# Altium schematic symbol library SIM Modules.SchLib: 12 symbols
Pins are listed as number, name and electrical type; pins without a type are passive.

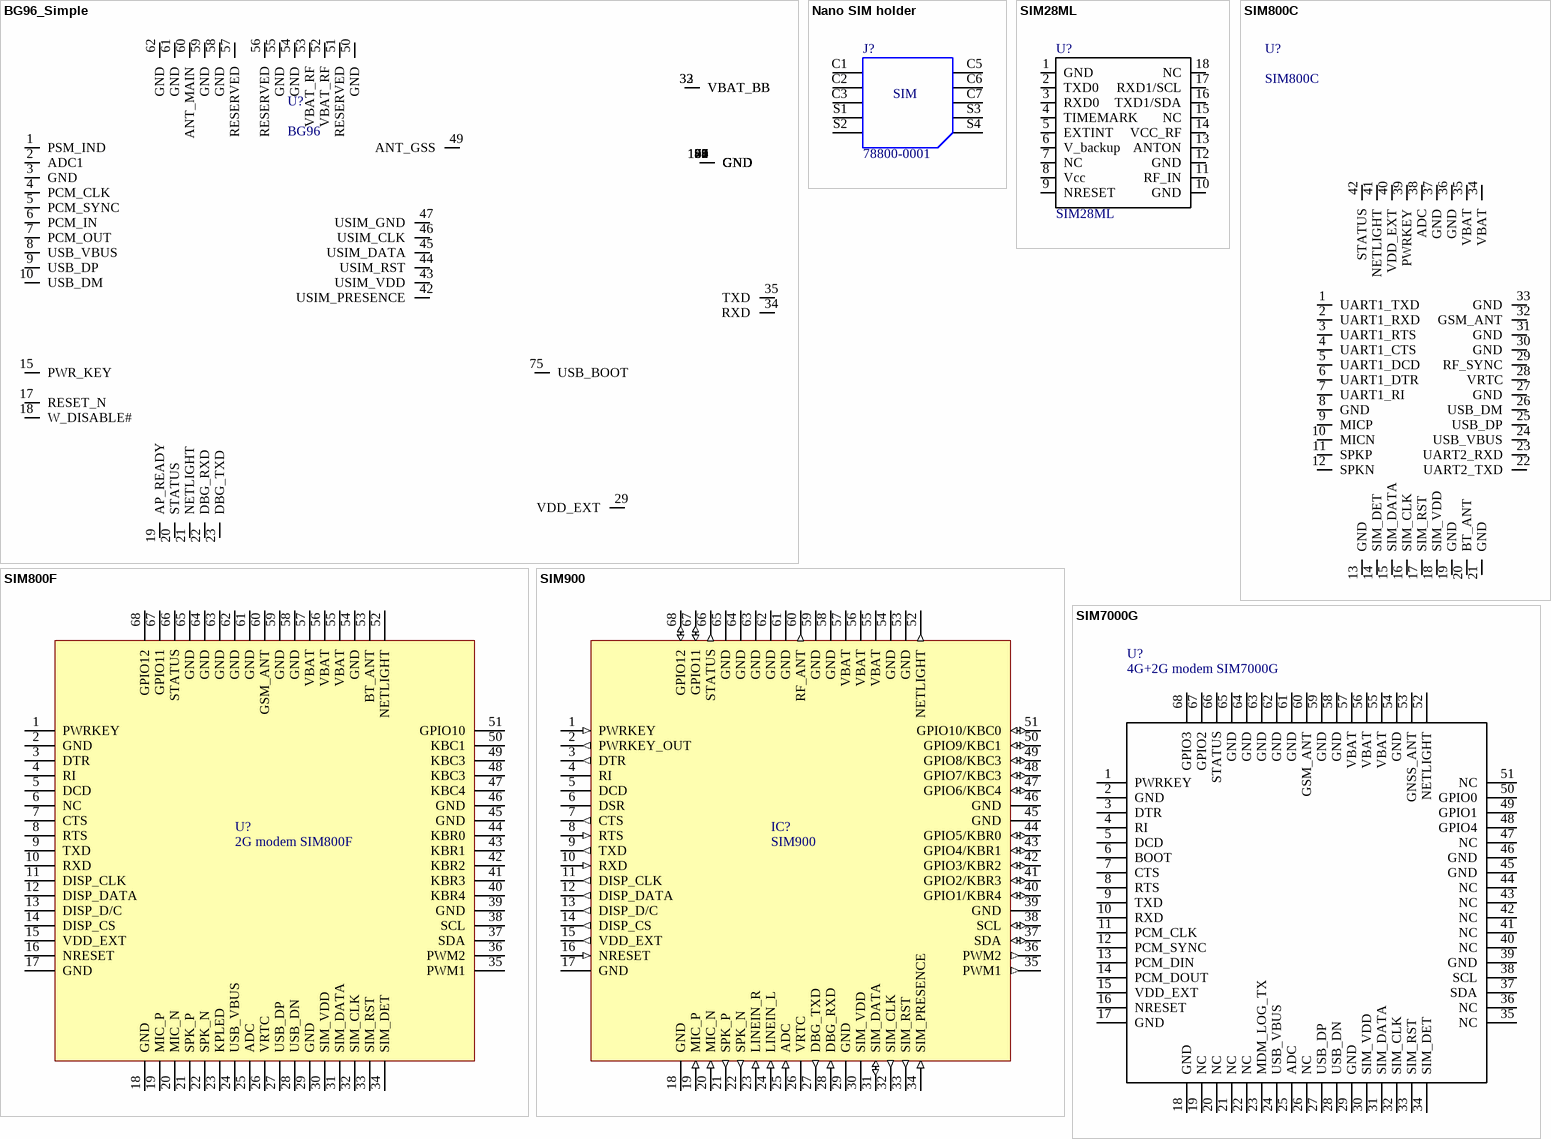
[diagram p0: symbols BG96_Simple to SIM7000G]

## BG96_Simple
designator U?, comment BG96
pins: 1 PSM_IND, 2 ADC1, 3 GND, 4 PCM_CLK, 5 PCM_SYNC, 6 PCM_IN, 7 PCM_OUT, 8 USB_VBUS, 9 USB_DP, 10 USB_DM, 15 PWR_KEY, 17 RESET_N, 18 W_DISABLE#, 19 AP_READY, 20 STATUS, 21 NETLIGHT, 22 DBG_RXD, 23 DBG_TXD, 29 VDD_EXT, 31 GND, 32 VBAT_BB, 33 VBAT_BB, 34 RXD, 35 TXD, 42 USIM_PRESENCE, 43 USIM_VDD, 44 USIM_RST, 45 USIM_DATA, 46 USIM_CLK, 47 USIM_GND, 48 GND, 49 ANT_GSS, 50 GND, 51 RESERVED, 52 VBAT_RF, 53 VBAT_RF, 54 GND, 55 GND, 56 RESERVED, 57 RESERVED, 58 GND, 59 GND, 60 ANT_MAIN, 61 GND, 62 GND, 67 GND, 68 GND, 69 GND, 70 GND, 71 GND, 72 GND, 73 GND, 74 GND, 75 USB_BOOT, 79 GND, 80 GND, 81 GND, 82 GND, 89 GND, 90 GND, 91 GND, 100 GND, 101 GND, 102 GND

## Nano SIM holder
designator J?, comment 78800-0001
footprint Nano SIM holder (78800-0001)
pins: C1, C2, C3, C5, C6, C7, S1, S2, S3, S4
text: SIM

## SIM28ML
designator U?, comment Part Number: SIM28ML  (hidden comment: GPS module)
Manufacturer: SIMCOM; Price 1: 7.37; Price 100: 4.51; Price 1000: 4.5
footprint SIM28ML
pins: 1 GND, 2 TXD0, 3 RXD0, 4 TIMEMARK, 5 EXTINT, 6 V_backup, 7 NC, 8 Vcc, 9 NRESET, 10 GND, 11 RF_IN, 12 GND, 13 ANTON, 14 VCC_RF, 15 NC, 16 TXD1/SDA, 17 RXD1/SCL, 18 NC

## SIM800C
designator U?
pins: 1 UART1_TXD, 2 UART1_RXD, 3 UART1_RTS, 4 UART1_CTS, 5 UART1_DCD, 6 UART1_DTR, 7 UART1_RI, 8 GND, 9 MICP, 10 MICN, 11 SPKP, 12 SPKN, 13 GND, 14 SIM_DET, 15 SIM_DATA, 16 SIM_CLK, 17 SIM_RST, 18 SIM_VDD, 19 GND, 20 BT_ANT, 21 GND, 22 UART2_TXD, 23 UART2_RXD, 24 USB_VBUS, 25 USB_DP, 26 USB_DM, 27 GND, 28 VRTC, 29 RF_SYNC, 30 GND, 31 GND, 32 GSM_ANT, 33 GND, 34 VBAT, 35 VBAT, 36 GND, 37 GND, 38 ADC, 39 PWRKEY, 40 VDD_EXT, 41 NETLIGHT, 42 STATUS

## SIM800F
designator U?, comment 2G modem SIM800F
footprint SIM800F
pins: 1 PWRKEY, 2 GND, 3 DTR, 4 RI, 5 DCD, 6 NC, 7 CTS, 8 RTS, 9 TXD, 10 RXD, 11 DISP_CLK, 12 DISP_DATA, 13 DISP_D/C, 14 DISP_CS, 15 VDD_EXT, 16 NRESET, 17 GND, 18 GND, 19 MIC_P, 20 MIC_N, 21 SPK_P, 22 SPK_N, 23 KPLED, 24 USB_VBUS, 25 ADC, 26 VRTC, 27 USB_DP, 28 USB_DN, 29 GND, 30 SIM_VDD, 31 SIM_DATA, 32 SIM_CLK, 33 SIM_RST, 34 SIM_DET, 35 PWM1, 36 PWM2, 37 SDA, 38 SCL, 39 GND, 40 KBR4, 41 KBR3, 42 KBR2, 43 KBR1, 44 KBR0, 45 GND, 46 GND, 47 KBC4, 48 KBC3, 49 KBC3, 50 KBC1, 51 GPIO10, 52 NETLIGHT, 53 BT_ANT, 54 GND, 55 VBAT, 56 VBAT, 57 VBAT, 58 GND, 59 GND, 60 GSM_ANT, 61 GND, 62 GND, 63 GND, 64 GND, 65 GND, 66 STATUS, 67 GPIO11, 68 GPIO12

## SIM900
designator IC?
footprint SIM900
pins: 1 PWRKEY (in), 2 PWRKEY_OUT (out), 3 DTR (out), 4 RI, 5 DCD, 6 DSR, 7 CTS (out), 8 RTS (in), 9 TXD (out), 10 RXD (in), 11 DISP_CLK (out), 12 DISP_DATA (out), 13 DISP_D/C (out), 14 DISP_CS (out), 15 VDD_EXT (out), 16 NRESET (in), 17 GND (power), 18 GND (power), 19 MIC_P (in), 20 MIC_N (in), 21 SPK_P (out), 22 SPK_N (out), 23 LINEIN_R (in), 24 LINEIN_L (in), 25 ADC (in), 26 VRTC, 27 DBG_TXD (out), 28 DBG_RXD (in), 29 GND (power), 30 SIM_VDD (power), 31 SIM_DATA (io), 32 SIM_CLK (out), 33 SIM_RST (out), 34 SIM_PRESENCE (in), 35 PWM1 (out), 36 PWM2 (out), 37 SDA (io), 38 SCL (io), 39 GND (power), 40 GPIO1/KBR4 (io), 41 GPIO2/KBR3 (io), 42 GPIO3/KBR2 (io), 43 GPIO4/KBR1 (io), 44 GPIO5/KBR0 (io), 45 GND (power), 46 GND (power), 47 GPIO6/KBC4 (io), 48 GPIO7/KBC3 (io), 49 GPIO8/KBC3 (io), 50 GPIO9/KBC1 (io), 51 GPIO10/KBC0 (io), 52 NETLIGHT (out), 53 GND (power), 54 GND (power), 55 VBAT (power), 56 VBAT (power), 57 VBAT (power), 58 GND (power), 59 GND (power), 60 RF_ANT (out), 61 GND (power), 62 GND (power), 63 GND (power), 64 GND (power), 65 GND (power), 66 STATUS (out), 67 GPIO11 (io), 68 GPIO12 (io)

## SIM7000G
designator U?, comment 4G+2G modem SIM7000G
Manufacturer: SIMCOM; Part Number: SIM7000G; Price 1: *; Price 100: *; Price 1000: *
footprint SIM800F
pins: 1 PWRKEY, 2 GND, 3 DTR, 4 RI, 5 DCD, 6 BOOT, 7 CTS, 8 RTS, 9 TXD, 10 RXD, 11 PCM_CLK, 12 PCM_SYNC, 13 PCM_DIN, 14 PCM_DOUT, 15 VDD_EXT, 16 NRESET, 17 GND, 18 GND, 19 NC, 20 NC, 21 NC, 22 NC, 23 MDM_LOG_TX, 24 USB_VBUS, 25 ADC, 26 NC, 27 USB_DP, 28 USB_DN, 29 GND, 30 SIM_VDD, 31 SIM_DATA, 32 SIM_CLK, 33 SIM_RST, 34 SIM_DET, 35 NC, 36 NC, 37 SDA, 38 SCL, 39 GND, 40 NC, 41 NC, 42 NC, 43 NC, 44 NC, 45 GND, 46 GND, 47 NC, 48 GPIO4, 49 GPIO1, 50 GPIO0, 51 NC, 52 NETLIGHT, 53 GNSS_ANT, 54 GND, 55 VBAT, 56 VBAT, 57 VBAT, 58 GND, 59 GND, 60 GSM_ANT, 61 GND, 62 GND, 63 GND, 64 GND, 65 GND, 66 STATUS, 67 GPIO2, 68 GPIO3

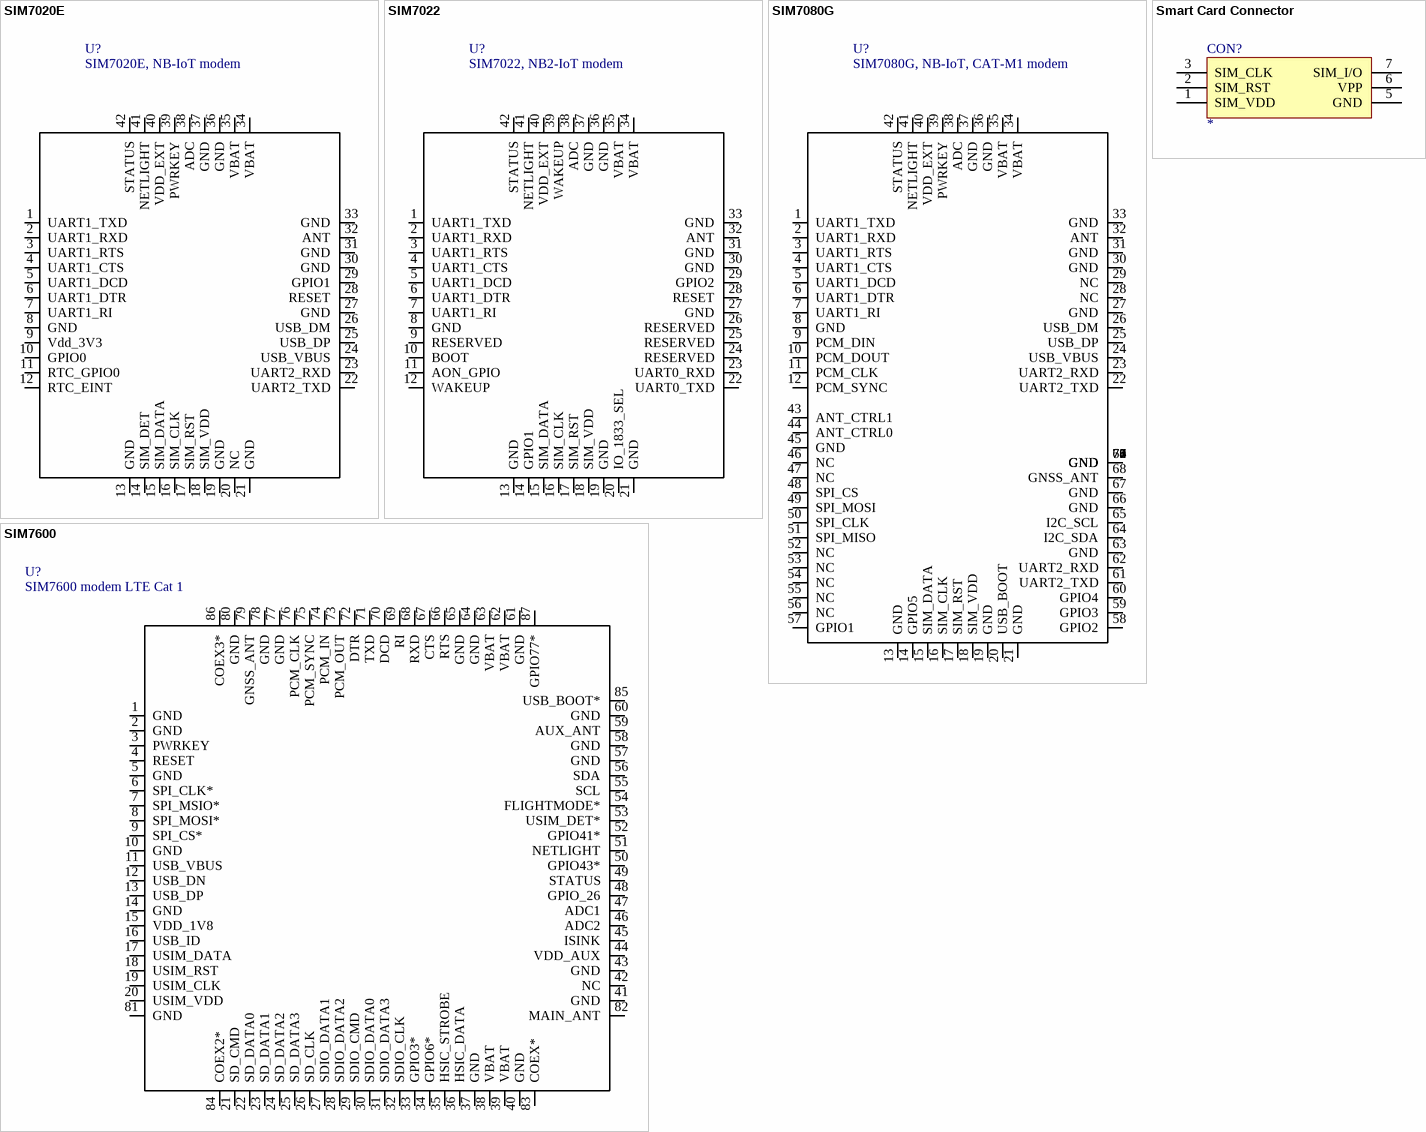
[diagram p1: symbols SIM7020E to Smart Card Connector]

## SIM7020E
designator U?, comment SIM7020E, NB-IoT modem
Manufacturer: SIMCOM; Part Number: SIM7020E
footprint SIM7020E
pins: 1 UART1_TXD, 2 UART1_RXD, 3 UART1_RTS, 4 UART1_CTS, 5 UART1_DCD, 6 UART1_DTR, 7 UART1_RI, 8 GND, 9 Vdd_3V3, 10 GPIO0, 11 RTC_GPIO0, 12 RTC_EINT, 13 GND, 14 SIM_DET, 15 SIM_DATA, 16 SIM_CLK, 17 SIM_RST, 18 SIM_VDD, 19 GND, 20 NC, 21 GND, 22 UART2_TXD, 23 UART2_RXD, 24 USB_VBUS, 25 USB_DP, 26 USB_DM, 27 GND, 28 RESET, 29 GPIO1, 30 GND, 31 GND, 32 ANT, 33 GND, 34 VBAT, 35 VBAT, 36 GND, 37 GND, 38 ADC, 39 PWRKEY, 40 VDD_EXT, 41 NETLIGHT, 42 STATUS

## SIM7022
designator U?, comment SIM7022, NB2-IoT modem
Manufacturer: SIMCOM; Part Number: SIM7022; Price 1: 5; Price 100: 5; Price 1000: 5
footprint SIM7020E
pins: 1 UART1_TXD, 2 UART1_RXD, 3 UART1_RTS, 4 UART1_CTS, 5 UART1_DCD, 6 UART1_DTR, 7 UART1_RI, 8 GND, 9 RESERVED, 10 BOOT, 11 AON_GPIO, 12 WAKEUP, 13 GND, 14 GPIO1, 15 SIM_DATA, 16 SIM_CLK, 17 SIM_RST, 18 SIM_VDD, 19 GND, 20 IO_1833_SEL, 21 GND, 22 UART0_TXD, 23 UART0_RXD, 24 RESERVED, 25 RESERVED, 26 RESERVED, 27 GND, 28 RESET, 29 GPIO2, 30 GND, 31 GND, 32 ANT, 33 GND, 34 VBAT, 35 VBAT, 36 GND, 37 GND, 38 ADC, 39 WAKEUP, 40 VDD_EXT, 41 NETLIGHT, 42 STATUS

## SIM7080G
designator U?, comment SIM7080G, NB-IoT, CAT-M1 modem
Manufacturer: SIMCOM; Part Number: SIM7080G; Price 1: 12; Price 100: 11; Price 1000: 10
footprint SIM7080G
pins: 1 UART1_TXD, 2 UART1_RXD, 3 UART1_RTS, 4 UART1_CTS, 5 UART1_DCD, 6 UART1_DTR, 7 UART1_RI, 8 GND, 9 PCM_DIN, 10 PCM_DOUT, 11 PCM_CLK, 12 PCM_SYNC, 13 GND, 14 GPIO5, 15 SIM_DATA, 16 SIM_CLK, 17 SIM_RST, 18 SIM_VDD, 19 GND, 20 USB_BOOT, 21 GND, 22 UART2_TXD, 23 UART2_RXD, 24 USB_VBUS, 25 USB_DP, 26 USB_DM, 27 GND, 28 NC, 29 NC, 30 GND, 31 GND, 32 ANT, 33 GND, 34 VBAT, 35 VBAT, 36 GND, 37 GND, 38 ADC, 39 PWRKEY, 40 VDD_EXT, 41 NETLIGHT, 42 STATUS, 43 ANT_CTRL1, 44 ANT_CTRL0, 45 GND, 46 NC, 47 NC, 48 SPI_CS, 49 SPI_MOSI, 50 SPI_CLK, 51 SPI_MISO, 52 NC, 53 NC, 54 NC, 55 NC, 56 NC, 57 GPIO1, 58 GPIO2, 59 GPIO3, 60 GPIO4, 61 UART2_TXD, 62 UART2_RXD, 63 GND, 64 I2C_SDA, 65 I2C_SCL, 66 GND, 67 GND, 68 GNSS_ANT, 69 GND, 70 GND, 71 GND, 72 GND, 73 GND, 74 GND, 75 GND, 76 GND, 77 GND

## SIM7600
designator U?, comment SIM7600 modem LTE Cat 1
Part Number: SIM7600G; Manufacturer: SIMCOM; Price 1: 26.50; Price 100: 21.50; Price 1000: 20.50
footprint SIM7600G (SIM7600G LTE CAT 1 modem)
pins: 1 GND, 2 GND, 3 PWRKEY, 4 RESET, 5 GND, 6 SPI_CLK*, 7 SPI_MSIO*, 8 SPI_MOSI*, 9 SPI_CS*, 10 GND, 11 USB_VBUS, 12 USB_DN, 13 USB_DP, 14 GND, 15 VDD_1V8, 16 USB_ID, 17 USIM_DATA, 18 USIM_RST, 19 USIM_CLK, 20 USIM_VDD, 21 SD_CMD, 22 SD_DATA0, 23 SD_DATA1, 24 SD_DATA2, 25 SD_DATA3, 26 SD_CLK, 27 SDIO_DATA1, 28 SDIO_DATA2, 29 SDIO_CMD, 30 SDIO_DATA0, 31 SDIO_DATA3, 32 SDIO_CLK, 33 GPIO3*, 34 GPIO6*, 35 HSIC_STROBE, 36 HSIC_DATA, 37 GND, 38 VBAT, 39 VBAT, 40 GND, 41 GND, 42 NC, 43 GND, 44 VDD_AUX, 45 ISINK, 46 ADC2, 47 ADC1, 48 GPIO_26, 49 STATUS, 50 GPIO43*, 51 NETLIGHT, 52 GPIO41*, 53 USIM_DET*, 54 FLIGHTMODE*, 55 SCL, 56 SDA, 57 GND, 58 GND, 59 AUX_ANT, 60 GND, 61 GND, 62 VBAT, 63 VBAT, 64 GND, 65 GND, 66 RTS, 67 CTS, 68 RXD, 69 RI, 70 DCD, 71 TXD, 72 DTR, 73 PCM_OUT, 74 PCM_IN, 75 PCM_SYNC, 76 PCM_CLK, 77 GND, 78 GND, 79 GNSS_ANT, 80 GND, 81 GND, 82 MAIN_ANT, 83 COEX*, 84 COEX2*, 85 USB_BOOT*, 86 COEX3*, 87 GPIO77*

## Smart Card Connector
designator CON?, comment Smart Card  (value not drawn)
Part Nr:: *
footprint Smart Card C707A (Amphenol C707 10M006 049 2)
pins: 1 SIM_VDD, 2 SIM_RST, 3 SIM_CLK, 5 GND, 6 VPP, 7 SIM_I/O